# EAGLE library part STX-4235-3/3-N (library con-kycon)
STACKED 3.5 MM AUDIO JACK
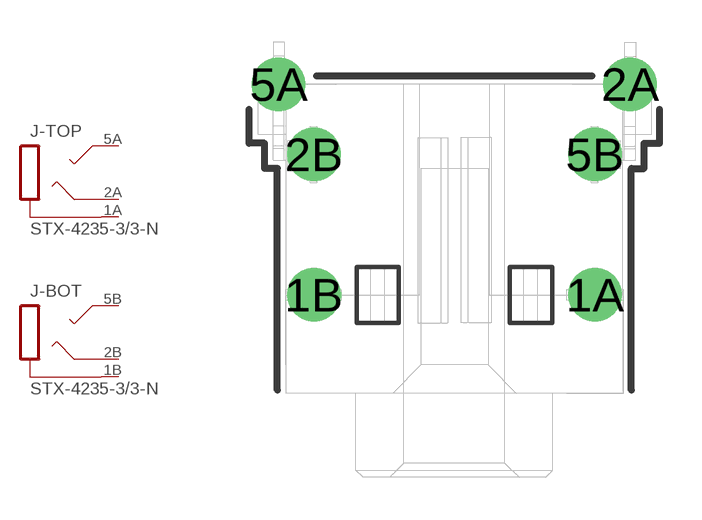
[diagram p0: symbol with the pads of STX-4235-3/3-N; footprint STX-4235-3/3-N]

Designator prefix J; gates -TOP=STX-4235-3 -BOT=STX-4235-3

## STX-4235-3/3-N  [STX-4235-3/3-N]
1A  -TOP:1  pas
1B  -BOT:1  pas
2A  -TOP:2  pas
2B  -BOT:2  pas
5A  -TOP:5  pas
5B  -BOT:5  pas

## Footprint STX-4235-3/3-N (pad centres in mm)
STACKED 3.5 MM CONNECTOR
drill 1.27: 1A 5,3.5; 1B -5,3.5; 2A 6.25,11; 2B -5,8.5; 5A -6.25,11; 5B 5,8.5